# Altium schematic symbol library 5005.SchLib: 1 symbol
Pins are listed as number, name and electrical type; pins without a type are passive.

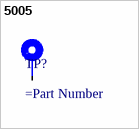
[diagram p0: symbol 5005]

## 5005
designator TP?
=Description
pins: 1